# EAGLE library part CC1200 (library Taylor)
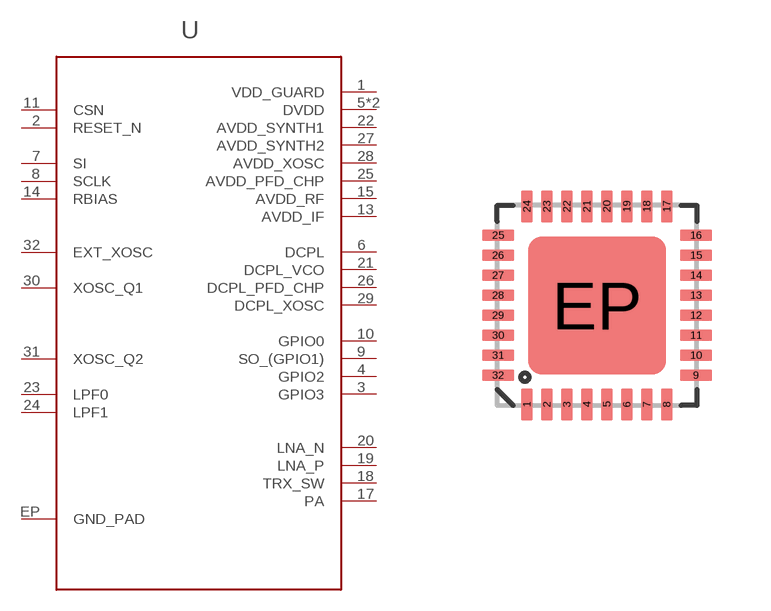
[diagram p44: symbol with the pads of QFN-32; footprint QFN-32]

Designator prefix -

## CC1200  [QFN-32]
1  VDD_GUARD  pwr
2  RESET_N
3  GPIO3
4  GPIO2
5  DVDD  pwr
6  DCPL
7  SI
8  SCLK
9  SO_(GPIO1)
10  GPIO0
11  CSN
12  DVDD  pwr
13  AVDD_IF
14  RBIAS
15  AVDD_RF
17  PA
18  TRX_SW
19  LNA_P
20  LNA_N
21  DCPL_VCO
22  AVDD_SYNTH1  pwr
23  LPF0
24  LPF1
25  AVDD_PFD_CHP  pwr
26  DCPL_PFD_CHP
27  AVDD_SYNTH2  pwr
28  AVDD_XOSC  pwr
29  DCPL_XOSC
30  XOSC_Q1
31  XOSC_Q2
32  EXT_XOSC
EP  GND_PAD  pwr

## Footprint QFN-32 (pad centres in mm)
QFN 32-Pin package w/ Thermal Pad ***Unproven*** Applicable Parts: TLC5940
smd 0.285 x 0.8: 1 -1.75,-2.475; 2 -1.25,-2.475; 3 -0.75,-2.475; 4 -0.25,-2.475; 5 0.25,-2.475; 6 0.75,-2.475; 7 1.25,-2.475; 8 1.75,-2.475; 17 1.75,2.475; 18 1.25,2.475; 19 0.75,2.475; 20 0.25,2.475; 21 -0.25,2.475; 22 -0.75,2.475; 23 -1.25,2.475; 24 -1.75,2.475
smd 0.8 x 0.285: 9 2.475,-1.75; 10 2.475,-1.25; 11 2.475,-0.75; 12 2.475,-0.25; 13 2.475,0.25; 14 2.475,0.75; 15 2.475,1.25; 16 2.475,1.75; 25 -2.475,1.75; 26 -2.475,1.25; 27 -2.475,0.75; 28 -2.475,0.25; 29 -2.475,-0.25; 30 -2.475,-0.75; 31 -2.475,-1.25; 32 -2.475,-1.75
smd 3.45 x 3.45: EP 0,0